# Altium schematic symbol library no-production.SchLib: 17 symbols
Pins are listed as number, name and electrical type; pins without a type are passive.

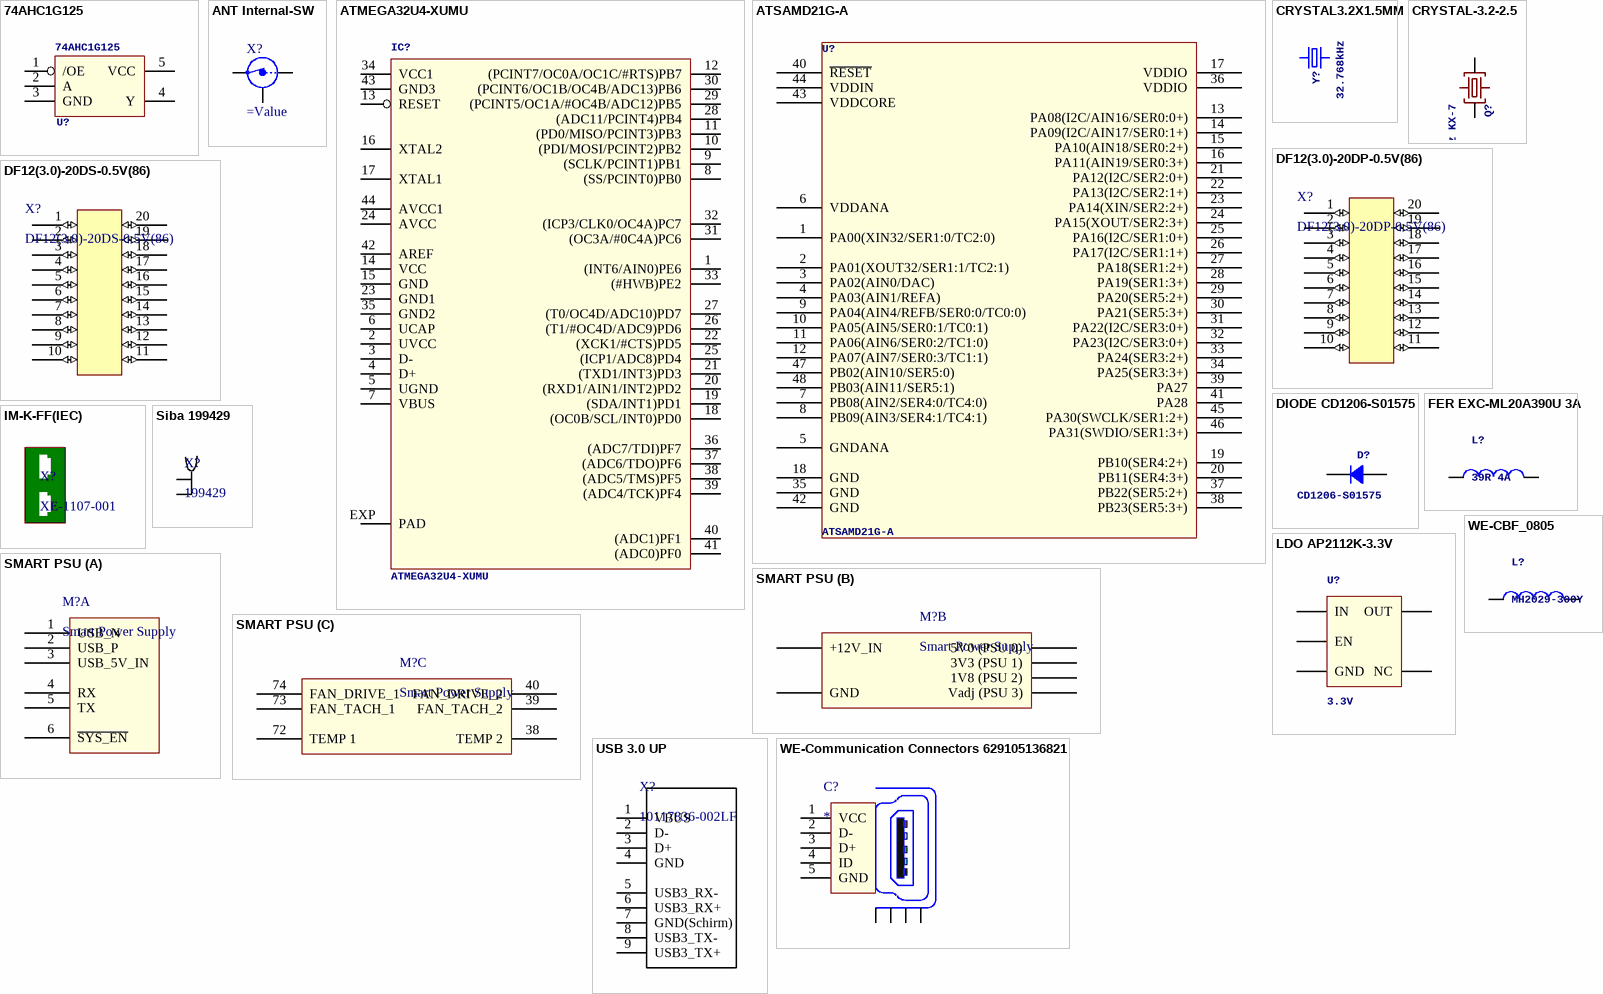
[diagram p0: symbols 74AHC1G125 to WE-Communication Connectors 629105136821]

## 74AHC1G125
designator U?
Single bus buffer gate with 3-state output; GateName_1: G$1; LibraryName: SparkFun-DigitalIC; DeviceSetName: 74AHC1G125; Created By: Nils Minor; Manufacturer Part Number: 74AHC1G125
footprint SOT235
pins: 1 /OE, 2 A, 3 GND, 4 Y, 5 VCC

## ANT Internal-SW
designator X?
Coaxial Connector with Switch; Manufacturer: Murata; Manufacturer Part Number: MM8130-2600; Created By: Nils Minor
footprint COAXIAL-SWF
pins: 1 IN, 2 Shield, 3 OUT

## ATMEGA32U4-XUMU
designator IC?
GateName_1: G$1; DeviceName: MU; LibraryName: SmartPrj; DeviceSetName: ATMEGA32U4-XU
footprint QFN44ML7X7
pins: 1 (INT6/AIN0)PE6, 2 UVCC (power), 3 D-, 4 D+, 5 UGND (power), 6 UCAP, 7 VBUS, 8 (SS/PCINT0)PB0, 9 (SCLK/PCINT1)PB1, 10 (PDI/MOSI/PCINT2)PB2, 11 (PD0/MISO/PCINT3)PB3, 12 (PCINT7/OC0A/OC1C/#RTS)PB7, 13 RESET, 14 VCC (power), 15 GND (power), 16 XTAL2, 17 XTAL1, 18 (OC0B/SCL/INT0)PD0, 19 (SDA/INT1)PD1, 20 (RXD1/AIN1/INT2)PD2, 21 (TXD1/INT3)PD3, 22 (XCK1/#CTS)PD5, 23 GND1 (power), 24 AVCC (power), 25 (ICP1/ADC8)PD4, 26 (T1/#OC4D/ADC9)PD6, 27 (T0/OC4D/ADC10)PD7, 28 (ADC11/PCINT4)PB4, 29 (PCINT5/OC1A/#OC4B/ADC12)PB5, 30 (PCINT6/OC1B/OC4B/ADC13)PB6, 31 (OC3A/#0C4A)PC6, 32 (ICP3/CLK0/OC4A)PC7, 33 (#HWB)PE2, 34 VCC1 (power), 35 GND2 (power), 36 (ADC7/TDI)PF7, 37 (ADC6/TDO)PF6, 38 (ADC5/TMS)PF5, 39 (ADC4/TCK)PF4, 40 (ADC1)PF1, 41 (ADC0)PF0, 42 AREF (power), 43 GND3 (power), 44 AVCC1 (power), EXP PAD (power)

## ATSAMD21G-A
designator U?
Atmel SAMD21G SMART ARM-Based MicrocontrollerThe Atmel Â® ¦ SMART â„¢ SAM D21 is a series of low-power microcontrollers using the 32-bit ARM Â® Cortex Â® -M0+ processor, and ranging from 32- to 64-pins with up to 256KB Flash and 32KB of SRAM. The SAM D21 devices operate at a maximum frequency of 48MHz and reach 2.46 CoreMark/MHz. They are designed for simple and intuitive migration with identical peripheral modules, hex compatible code, identical linear address map and pin compatible migration paths between all devices in the product series. All devices include intelligent and flexible peripherals, Atmel Event System for inter-peripheral signaling, and support for capacitive touch button, slider and wheel user interfaces.; GateName_1: G$1; DeviceName: -A; LibraryName: samd21-temp; DeviceSetName: ATSAMD21G; Created By: Nils Minor; Manufacturer: ATmel; Manufacturer Part Number: ATSAMD21G
footprint TQFP 48
pins: 1 PA00(XIN32/SER1:0/TC2:0), 2 PA01(XOUT32/SER1:1/TC2:1), 3 PA02(AIN0/DAC), 4 PA03(AIN1/REFA), 5 GNDANA, 6 VDDANA, 7 PB08(AIN2/SER4:0/TC4:0), 8 PB09(AIN3/SER4:1/TC4:1), 9 PA04(AIN4/REFB/SER0:0/TC0:0), 10 PA05(AIN5/SER0:1/TC0:1), 11 PA06(AIN6/SER0:2/TC1:0), 12 PA07(AIN7/SER0:3/TC1:1), 13 PA08(I2C/AIN16/SER0:0+), 14 PA09(I2C/AIN17/SER0:1+), 15 PA10(AIN18/SER0:2+), 16 PA11(AIN19/SER0:3+), 17 VDDIO, 18 GND, 19 PB10(SER4:2+), 20 PB11(SER4:3+), 21 PA12(I2C/SER2:0+), 22 PA13(I2C/SER2:1+), 23 PA14(XIN/SER2:2+), 24 PA15(XOUT/SER2:3+), 25 PA16(I2C/SER1:0+), 26 PA17(I2C/SER1:1+), 27 PA18(SER1:2+), 28 PA19(SER1:3+), 29 PA20(SER5:2+), 30 PA21(SER5:3+), 31 PA22(I2C/SER3:0+), 32 PA23(I2C/SER3:0+), 33 PA24(SER3:2+), 34 PA25(SER3:3+), 35 GND, 36 VDDIO, 37 PB22(SER5:2+), 38 PB23(SER5:3+), 39 PA27, 40 ~{RESET}, 41 PA28, 42 GND, 43 VDDCORE, 44 VDDIN, 45 PA30(SWCLK/SER1:2+), 46 PA31(SWDIO/SER1:3+), 47 PB02(AIN10/SER5:0), 48 PB03(AIN11/SER5:1)

## CRYSTAL3.2X1.5MM
designator Y?, comment 32.768kHz
Various standard crystals. Proven footprints.; GateName_1: G$1; DeviceName: 3.2X1.5MM; LibraryName: samd21-temp; DeviceSetName: CRYSTAL; Created By: Nils Minor
footprint CRYSTAL-SMD 3.2X1.5MM (CRYSTAL-SMD-3.2X1.5MM)
pins: 1, 2

## CRYSTAL-3.2-2.5
designator Q?, comment 16MHz KX-7
GateName_1: G$1; DeviceSetName: CRYSTAL-3.2-2.5; LibraryName: SmartPrj
footprint CRYSTAL-3.2-2.5
pins: 1 C1, 2 GND, 3 C2, 4 GND

## DF12(3.0)-20DP-0.5V(86)
designator X?
CONN HEADER 20POS 3MM SMD 0.5MM; Manufacturer: Hirose Electric (HRS); Manufacturer Part Number: DF12(3.0)-20DP-0.5V(86); Created By: Nils Minor
footprint DF12(3.0)-20DP-0.5V(86)
pins: 1 (io), 2 (io), 3 (io), 4 (io), 5 (io), 6 (io), 7 (io), 8 (io), 9 (io), 10 (io), 11 (io), 12 (io), 13 (io), 14 (io), 15 (io), 16 (io), 17 (io), 18 (io), 19 (io), 20 (io)

## DF12(3.0)-20DS-0.5V(86)
designator X?
CONN RECEPT 20POS 3MM SMD 0.5MM; Manufacturer: Hirose Electric (HRS); Manufacturer Part Number: DF12(3.0)-20DS-0.5V(86); Created By: Nils Minor
footprint DF12(3.0)-20DS-0.5V(86)
pins: 1 (io), 2 (io), 3 (io), 4 (io), 5 (io), 6 (io), 7 (io), 8 (io), 9 (io), 10 (io), 11 (io), 12 (io), 13 (io), 14 (io), 15 (io), 16 (io), 17 (io), 18 (io), 19 (io), 20 (io)

## DIODE CD1206-S01575
designator D?, comment CD1206-S01575
DIODE; GateName_1: G$1; DeviceName: MINIMELF; DeviceSetName: DIODE-; LibraryName: diode
footprint DIODE-MINIMELF (MINIMELF)
pins: A, C

## FER EXC-ML20A390U 3A
designator L?, comment 39R 4A
BEAD CORE 39R@100MHz 4A; GateName_1: G$1; DeviceName: _0805; DeviceSetName: WE-CBF; LibraryName: wuerth-elektronik
footprint FER 0805/2012 (Chip Ferrite, 2-Leads, Body 2.00x1.20mm, IPC Medium Density)
pins: 1, 2

## IM-K-FF(IEC)
designator X?, comment XE-1107-001
LABFACILITY         IM-K-FF (IEC)             Thermocouple Connector, Plug, Type K, IEC, Miniature, Fascia Panel Mount; Manufacturer: Labfacility; Manufacturer Part Number: IM-K-FF(IEC); Created By: Nils Minor
footprint XE-1107-001

## LDO AP2112K-3.3V
designator U?, comment 3.3V
AP2112 - 600mA CMOS LDO Regulator w/ EnableThe AP2112 is CMOS process low dropout linear regulator with enable function, the regulator delivers a guaranteed 600mA (min.) continuous load current.Features; Created By: Nils Minor
footprint SOT235
pins: 1 IN, 2 GND, 3 EN, 4 NC, 5 OUT

## Siba 199429
designator X?, comment 199429
Sicherungshaltefedern 199429 6.3mm; Manufacturer Part Number: 199429; Created By: Nils Minor
footprint Siba 199429
pins: 1, 2

## SMART PSU
designator M?, comment Smart Power Supply
Version 1, Nils Minor 04.04.2018
footprint SMART PSU
part A pins: 1 USB_N, 2 USB_P, 3 USB_5V_IN, 4 RX, 5 TX, 6 ~{SYS_EN}
part B pins: 7 GND, 8 GND, 9 GND, 10 GND, 11 GND, 12 GND, 13 GND, 14 GND, 15 GND, 16 GND, 17 GND, 18 GND, 19 GND, 20 GND, 21 GND, 22 GND, 23 GND, 24 GND, 25 GND, 26 GND, 27 +12V_IN, 28 +12V_IN, 29 +12V_IN, 30 +12V_IN, 31 +12V_IN, 32 +12V_IN, 33 +12V_IN, 34 +12V_IN, 35 +12V_IN, 36 +12V_IN, 37 +12V_IN, 41 Vadj, 42 Vadj, 43 Vadj, 44 Vadj, 45 Vadj (PSU 3), 46 1V8, 47 1V8, 48 1V8, 49 1V8, 50 1V8, 51 1V8, 52 1V8, 53 1V8 (PSU 2), 54 3V3, 55 3V3, 56 3V3, 57 3V3, 58 3V3, 59 3V3, 60 3V3, 61 3V3 (PSU 1), 62 5V0 (PSU 0), 63 5V0 (PSU 0), 64 5V0 (PSU 0), 65 5V0 (PSU 0), 66 5V0 (PSU 0), 67 5V0 (PSU 0), 68 5V0 (PSU 0), 69 5V0 (PSU 0), 70 5V0 (PSU 0), 71 5V0 (PSU 0)
part C pins: 38 TEMP 2, 39 FAN_TACH_2, 40 FAN_DRIVE_2, 72 TEMP 1, 73 FAN_TACH_1, 74 FAN_DRIVE_1

## USB 3.0 UP
designator X?, comment 10117836-002LF
Created By: Nils Minor
footprint USB3.0 UP (10117836-002LF)
pins: 1 VBUS, 2 D-, 3 D+, 4 GND, 5 USB3_RX-, 6 USB3_RX+, 7 GND(Schirm), 8 USB3_TX-, 9 USB3_TX+

## WE-CBF_0805
designator L?, comment MH2029-300Y
SMD EMI Suppression Ferrite Beads - excellent anti-EMI properties - low DCR - impedances till 3000 ohms - rated current up to 6 A; GateName_1: G$1; DeviceName: _0805; DeviceSetName: WE-CBF; LibraryName: wuerth-elektronik
footprint FER 0805/2012 (Chip Ferrite, 2-Leads, Body 2.00x1.20mm, IPC Medium Density)
pins: 1, 2

## WE-Communication Connectors 629105136821
designator C?
WR-COM Micro USB SMT Type B; Manufacturer: Würth Elektronik eiSos GmbH; Created by: Karrer Zheng
footprint 629105136821 (5 pins)
pins: 1 VCC, 2 D-, 3 D+, 4 ID, 5 GND, Z1 Shield, Z2 Shield, Z3 Shield, Z4 Shield